# Altium schematic symbol library Transistors.SchLib: 12 symbols
Pins are listed as number, name and electrical type; pins without a type are passive.

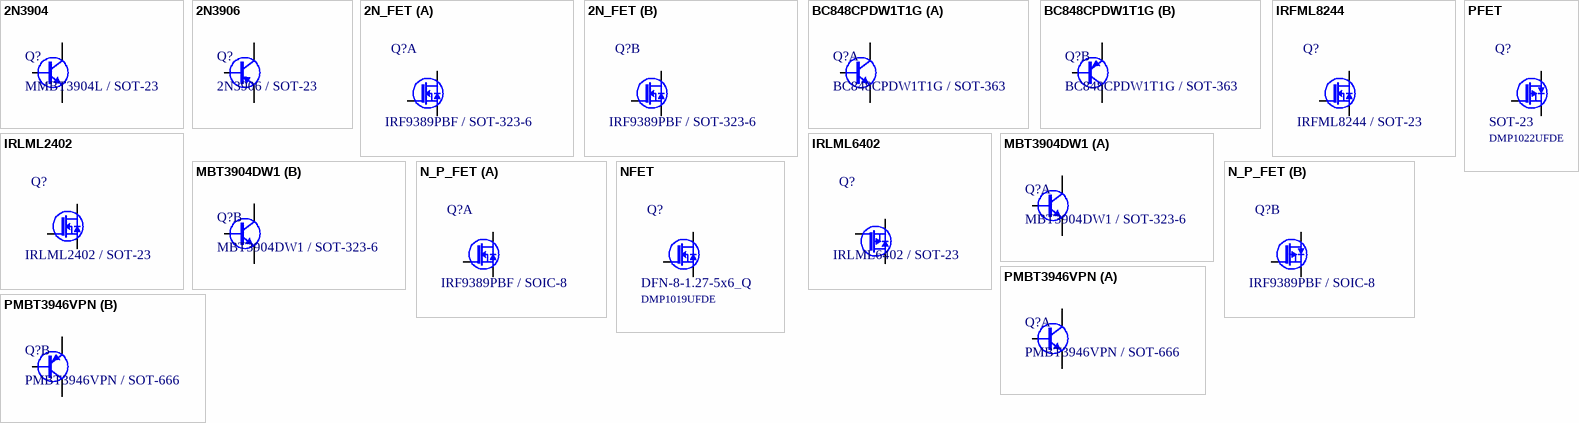
[diagram p0: symbols 2N3904 to PMBT3946VPN]

## 2N3904
designator Q?, comment MMBT3904L /
General Purpose Transistor; HelpURL: https://www.onsemi.com/pub/Collateral/MMBT3904LT1-D.PDF; Value: MMBT3904L; Manufacturer: *; BOMString: MMBT3904L; Supplier: *; Name: MMBT3904L
footprint SOT-23
footprint SOT-883 (DFN, 3-Leads, Body 0,59x0,98mm, Pitch 0,65mm, IPC Medium Density)
pins: 1 B, 2 E, 3 C

## 2N3906
designator Q?, comment 2N3906 /
General Purpose Transistor; HelpURL: http://www.onsemi.ru.com/PowerSolutions/document/MMBT3904LT1-D.PDF; Value: 2N3906; Manufacturer: *; BOMString: 2N3906; Supplier: *
footprint SOT-23
footprint SOT-883 (DFN, 3-Leads, Body 0,59x0,98mm, Pitch 0,65mm, IPC Medium Density)
pins: 1 B, 2 E, 3 C

## 2N_FET
designator Q?, comment IRF9389PBF /
Dual N Power MOSFET; Manufacturer: Infineon; Author: iTXS; HelpURL: http://www.infineon.com/dgdl/irfml8244pbf.pdf?fileId=5546d462533600a40153562817c91fc0; Supplier: http://www.digikey.com/product-detail/en/infineon-technologies/IRFML8244TRPBF/IRFML8244TRPBFCT-ND/2538166; Name: IRF9389PBF; BOMString: IRF9389PBF
footprint SOT-323-6
footprint SOT-23-6
footprint SOT-363 (SOT23, 6-Leads, Body 2,00x2,10mm, Pitch 0,60mm, IPC High Density)
footprint SOT-666 (SOTFL (SOT666), 0.50mm, Pitch; 6 Pin, 1.20mm W X 1.60mm L X 0.60mm H Body, IPC Medium Density)
footprint SOT-891 (SON, 6-Leads, Body 1,00x1,00mm, Pitch 0,35mm, IPC High Density)
part A pins: 1 S1, 2 G1, 6 D1
part B pins: 3 D2, 4 S2, 5 G2

## BC848CPDW1T1G
designator Q?, comment BC848CPDW1T1G /
Dual General Purpose Transistors; Name: BC848CPDW1T1G; BOMString: =Name+' / '+Footprint; Supplier: *; Manufacturer: *; HelpURL: *
footprint SOT-363 (SOT23, 6-Leads, Body 2,00x2,10mm, Pitch 0,60mm, IPC High Density)
part A pins: 1 E1, 2 B1, 6 C1
part B pins: 3 C2, 4 E2, 5 B2

## IRFML8244
designator Q?, comment IRFML8244 /
25V 4.6A N-Channel HEXFET® Power MOSFET; Author: iTXS; HelpURL: http://www.infineon.com/dgdl/irfml8244pbf.pdf?fileId=5546d462533600a40153562817c91fc0; Supplier: http://www.digikey.com/product-detail/en/infineon-technologies/IRFML8244TRPBF/IRFML8244TRPBFCT-ND/2538166; Name: IRFML8244; Manufacturer: *; BOMString: =Name+' / '+Footprint
footprint SOT-23
pins: 1 G, 2 S, 3 D

## IRLML2402
designator Q?, comment IRLML2402 /
20V 0.54A N-Channel HEXFET® Power MOSFET; Author: iTXS; Name: IRLML2402; BOMString: =Name+' / '+Footprint; HelpURL: *; Supplier: *; Manufacturer: *
footprint SOT-23
pins: 1 G, 2 S, 3 D

## IRLML6402
designator Q?, comment IRLML6402 /
-20V -1.3A P-Channel HEXFET® Power MOSFET; Author: iTXS; Name: IRLML6402; BOMString: =Name+' / '+Footprint; Supplier: *; Manufacturer: *; HelpURL: *
footprint SOT-23
pins: 1 G, 2 S, 3 D

## MBT3904DW1
designator Q?, comment MBT3904DW1 /
40 V, 200 mA 2xNPN transistor; HelpURL: http://www.onsemi.com/pub_link/Collateral/MBT3904DW1T1-D.PDF; Name: MBT3904DW1; BOMString: =Name+' / '+Footprint; Manufacturer: *; Supplier: *
footprint SOT-323-6
part A pins: 1 E1, 2 B1, 6 C1
part B pins: 3 C2, 4 E2, 5 B2

## N_P_FET
designator Q?, comment IRF9389PBF /
Dual N+P Power MOSFET; Manufacturer: Infineon; Author: iTXS; HelpURL: http://www.infineon.com/dgdl/irfml8244pbf.pdf?fileId=5546d462533600a40153562817c91fc0; Supplier: http://www.digikey.com/product-detail/en/infineon-technologies/IRFML8244TRPBF/IRFML8244TRPBFCT-ND/2538166; Name: IRF9389PBF; BOMString: IRF9389PBF
footprint SOIC-8; pin to pad 1>2 2>1 3>7+8 5>3 6>5+6
part A pins: 1 G, 2 S, 3 D
part B pins: 4 G, 5 S, 6 D

## NFET
designator Q?  BOMString: DMP1019UFDE
12V N-CHANNEL ENHANCEMENT MODE MOSFET; Author: iTXS; HelpURL: http://www.infineon.com/dgdl/irfml8244pbf.pdf?fileId=5546d462533600a40153562817c91fc0; Supplier: http://www.digikey.com/product-detail/en/infineon-technologies/IRFML8244TRPBF/IRFML8244TRPBFCT-ND/2538166; Manufacturer: *; Name: DMP1019UFDE
footprint SOT-23
footprint DFN-6-0.65-2x2_FET (QFN, 6-Leads, Body 2,00x2,00mm, Pitch 0,65mm, Thermal Pad 1,55x0,86mm, IPC Medium Density)
footprint DFN-8-0.65-3.3x3.3_FET (SON, 8-Leads, Body 3,30x3,30mm, Pitch 0,65mm, IPC Medium Density); pin to pad 1>2 2>1
footprint SOT-883 (DFN, 3-Leads, Body 0,59x0,98mm, Pitch 0,65mm, IPC Medium Density)
footprint SOT-223 (SOT223, 4-Leads, Body 6,50x7,00mm (avg), Pitch 2,30mm, IPC Medium Density); pin to pad 2>3 3>2
footprint DFN-8-1.27-5x6_Q (SON, 8-Leads, Body 5,00x6,00mm, Pitch 1,27mm, Thermal Pad 4,00x3,40mm, IPC Medium Density)
pins: 1 G, 2 S, 3 D

## PFET
designator Q?  BOMString: DMP1022UFDE
12V P-CHANNEL ENHANCEMENT MODE MOSFET; Author: iTXS; HelpURL: http://www.infineon.com/dgdl/irfml8244pbf.pdf?fileId=5546d462533600a40153562817c91fc0; Supplier: http://www.digikey.com/product-detail/en/infineon-technologies/IRFML8244TRPBF/IRFML8244TRPBFCT-ND/2538166; Name: DMP1022UFDE; Manufacturer: *
footprint SOT-23
footprint DFN-6-0.65-2x2_FET (QFN, 6-Leads, Body 2,00x2,00mm, Pitch 0,65mm, Thermal Pad 1,55x0,86mm, IPC Medium Density)
footprint DFN-8-0.65-3.3x3.3_FET (SON, 8-Leads, Body 3,30x3,30mm, Pitch 0,65mm, IPC Medium Density); pin to pad 1>2 2>1
footprint SOT-223 (SOT223, 4-Leads, Body 6,50x7,00mm (avg), Pitch 2,30mm, IPC Medium Density); pin to pad 2>3 3>2
footprint DFN-8-1.27-5x6_Q (SON, 8-Leads, Body 5,00x6,00mm, Pitch 1,27mm, Thermal Pad 4,00x3,40mm, IPC Medium Density)
pins: 1 G, 2 S, 3 D

## PMBT3946VPN
designator Q?, comment PMBT3946VPN /
40 V, 200 mA NPN/PNP switching transistor; HelpURL: http://www.nxp.com/documents/data_sheet/PMBT3946VPN.pdf; Name: PMBT3946VPN; BOMString: =Name+' / '+Footprint; Manufacturer: *; Supplier: *
footprint SOT-666 (SOTFL (SOT666), 0.50mm, Pitch; 6 Pin, 1.20mm W X 1.60mm L X 0.60mm H Body, IPC Medium Density)
footprint SOT-666_lowdensity (SOTFL (SOT666), 0.50mm, Pitch; 6 Pin, 1.20mm W X 1.60mm L X 0.60mm H Body, IPC Medium Density)
part A pins: 1 E1, 2 B1, 6 C1
part B pins: 3 C2, 4 E2, 5 B2